# Altium footprint library 10D561K.PcbLib: 1 footprints
Each footprint in its own frame and in the unit in brackets; x right, y up, seen from the top. Pads: shape width x height; smd on the part's side, far side on the other; paste and mask are expansions set on the pad; w line width, h text height; cw(c..) or ccw(c..) is an arc to the next point about the centre after c.
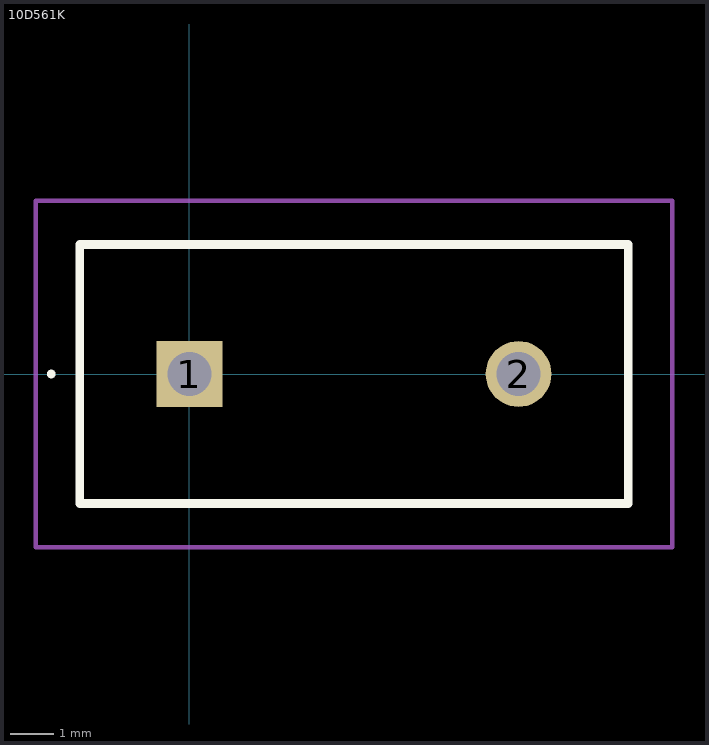
[diagram p0: the footprint, top view; thin cyan lines are the x and y axes]

## 10D561K [mm]
pads (2):
  rect 1.5x1.5 hole 1: 1(0,0)
  round 1.5 hole 1: 2(7.5,0)
Top Overlay:
  lines w0.1: -3.2,0 ccw(c-3.15,0) -3.1,0 ccw(c-3.15,0) -3.2,0
  lines w0.2: -2.5,-2.95 10,-2.95 10,2.95 -2.5,2.95 -2.5,-2.95
Mechanical 15:
  lines w0.1: -2.5,-2.95 10,-2.95 10,2.95 -2.5,2.95 -2.5,-2.95
Mechanical 20:
  lines w0.1: -3.5,-3.95 11,-3.95 11,3.95 -3.5,3.95 -3.5,-3.95
3D body "MOV-10D561KTR.stp": height 15.6, standoff -5, extent -2.5,-2.95 10,2.95